# EAGLE library part 612016235221 (library Wire-to-Board (rev18a))
WR-BHD 2.54mm Male Angled Box Header High Temperature, 16 Pins=>Code : Con_WTB_BHD_2.54_Male_THT_RS_612016235221 <http://katalog.we-online.de/media/thumbs2/eican/thb_Con_WTB_BHD_2.54_Male_THT_RS_6120xx235221_pf2.jpg> Details see: http://katalog.we-online.de/en/em/612_0xx_235_221 Created 2014-06-05, Karrer Zheng 2014 (C) Würth Elektronik
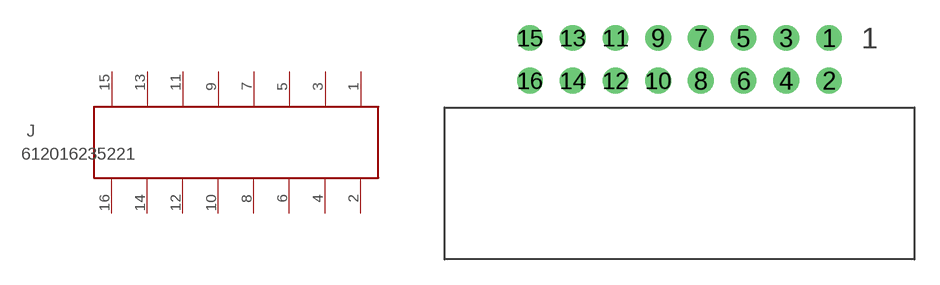
[diagram p147: symbol with the pads of 612016235221; footprint 612016235221]

Designator prefix J

## 612016235221  [612016235221]
1  16  pas
2  15  pas
3  14  pas
4  13  pas
5  12  pas
6  11  pas
7  10  pas
8  9  pas
9  8  pas
10  7  pas
11  6  pas
12  5  pas
13  4  pas
14  3  pas
15  2  pas
16  1  pas

## Footprint 612016235221 (pad centres in mm)
WR-BHD 2.54mm Male Angled Box Header High Temperature, 16 Pins
drill 1.02: 1 8.89,1.27; 2 8.89,-1.27; 3 6.35,1.27; 4 6.35,-1.27; 5 3.81,1.27; 6 3.81,-1.27; 7 1.27,1.27; 8 1.27,-1.27; 9 -1.27,1.27; 10 -1.27,-1.27; 11 -3.81,1.27; 12 -3.81,-1.27; 13 -6.35,1.27; 14 -6.35,-1.27; 15 -8.89,1.27; 16 -8.89,-1.27